# Altium integrated library XRCGB32M000F1H00R0.IntLib: 1 symbol
Pins are listed as number, name and electrical type; pins without a type are passive.

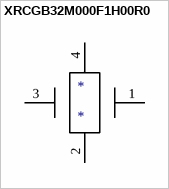
[diagram p0: symbol XRCGB32M000F1H00R0]

## XRCGB32M000F1H00R0
designator *
footprint TSX-3225 25.0000MF20P-C0
footprint XRCGB32M000F1H00R0
footprint FA-20H 12.0000MD30Z-K3
pins: 1, 2 3, 3, 4